# EAGLE library part MCP6N11010E (library phMeter)
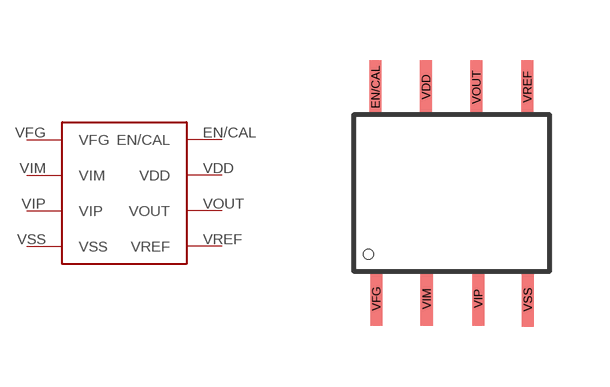
[diagram p1: symbol with the pads of SOIC; footprint SOIC]

Designator prefix -

## MCP6N11010E  [SOIC]
EN/CAL  EN/CAL
VDD  VDD
VFG  VFG
VIM  VIM
VIP  VIP
VOUT  VOUT
VREF  VREF
VSS  VSS

## Footprint SOIC (pad centres in mm)
smd 0.305 x 1.35: EN/CAL 0.545,4.6; VDD 1.81,4.6; VFG 0.565,-0.69; VIM 1.825,-0.695; VIP 3.115,-0.69; VOUT 3.07,4.6; VREF 4.345,4.6; VSS 4.355,-0.715